# Altium footprint library connector devives.PcbLib: 1 footprints
Each footprint in its own frame and in the unit in brackets; x right, y up, seen from the top. Pads: shape width x height; smd on the part's side, far side on the other; paste and mask are expansions set on the pad; w line width, h text height; cw(c..) or ccw(c..) is an arc to the next point about the centre after c.
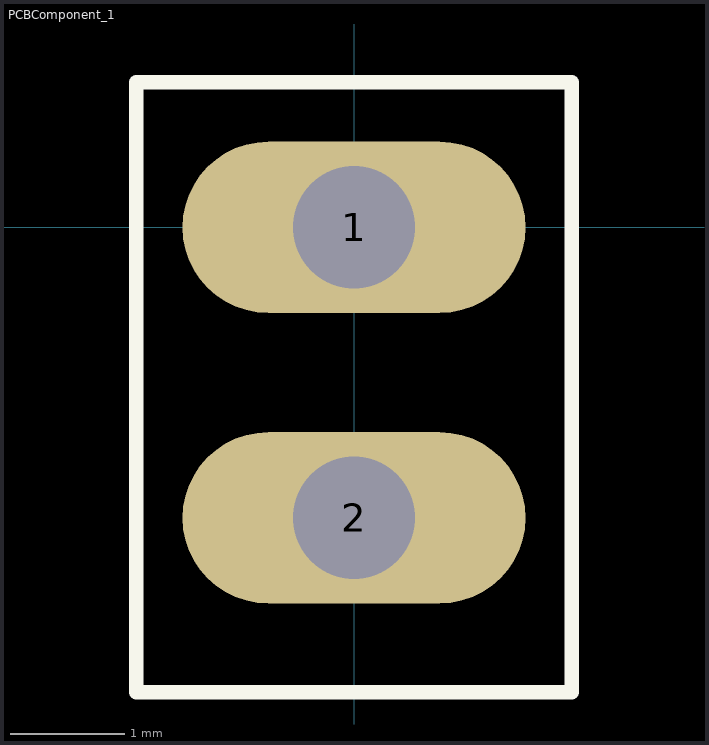
[diagram p0: the footprint, top view; thin cyan lines are the x and y axes]

## PCBComponent_1 [mm]
pads (2):
  oval 3x1.5 hole 1.07: 1(0,0) 2(0,-2.54)
Top Overlay:
  lines w0.127: -1.905,-4.064 -1.905,1.27 1.905,1.27 1.905,-4.064 -1.905,-4.064
3D body "User Library-Header_Male_2Pin.STEP": height 8.54, standoff -3, extent -1.245,-3.81 1.245,1.27